# EAGLE library part MCCOG21605B6W (library 2000dB)
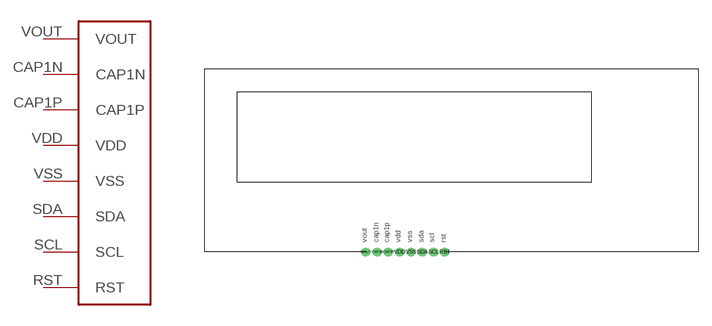
[diagram p17: symbol with the pads of MCCOG21605B6W; footprint MCCOG21605B6W]

Designator prefix -

## MCCOG21605B6W  [MCCOG21605B6W]
CAP1N  CAP1N
CAP1P  CAP1P
RST  RST
SCL  SCL
SDA  SDA
VDD  VDD
VOUT  VOUT
VSS  VSS

## Footprint MCCOG21605B6W (pad centres in mm)
drill 0.5 round: CAP1N -3.175,0; CAP1P -1.905,0; RST 4.445,0; SCL 3.175,0; SDA 1.905,0; VDD -0.635,0; VOUT -4.445,0; VSS 0.635,0